# Altium footprint library PcbLib.PcbLib: 39 footprints (part 2 of 3)
Each footprint in its own frame and in the unit in brackets; x right, y up, seen from the top. Pads: shape width x height; smd on the part's side, far side on the other; paste and mask are expansions set on the pad; w line width, h text height; cw(c..) or ccw(c..) is an arc to the next point about the centre after c.
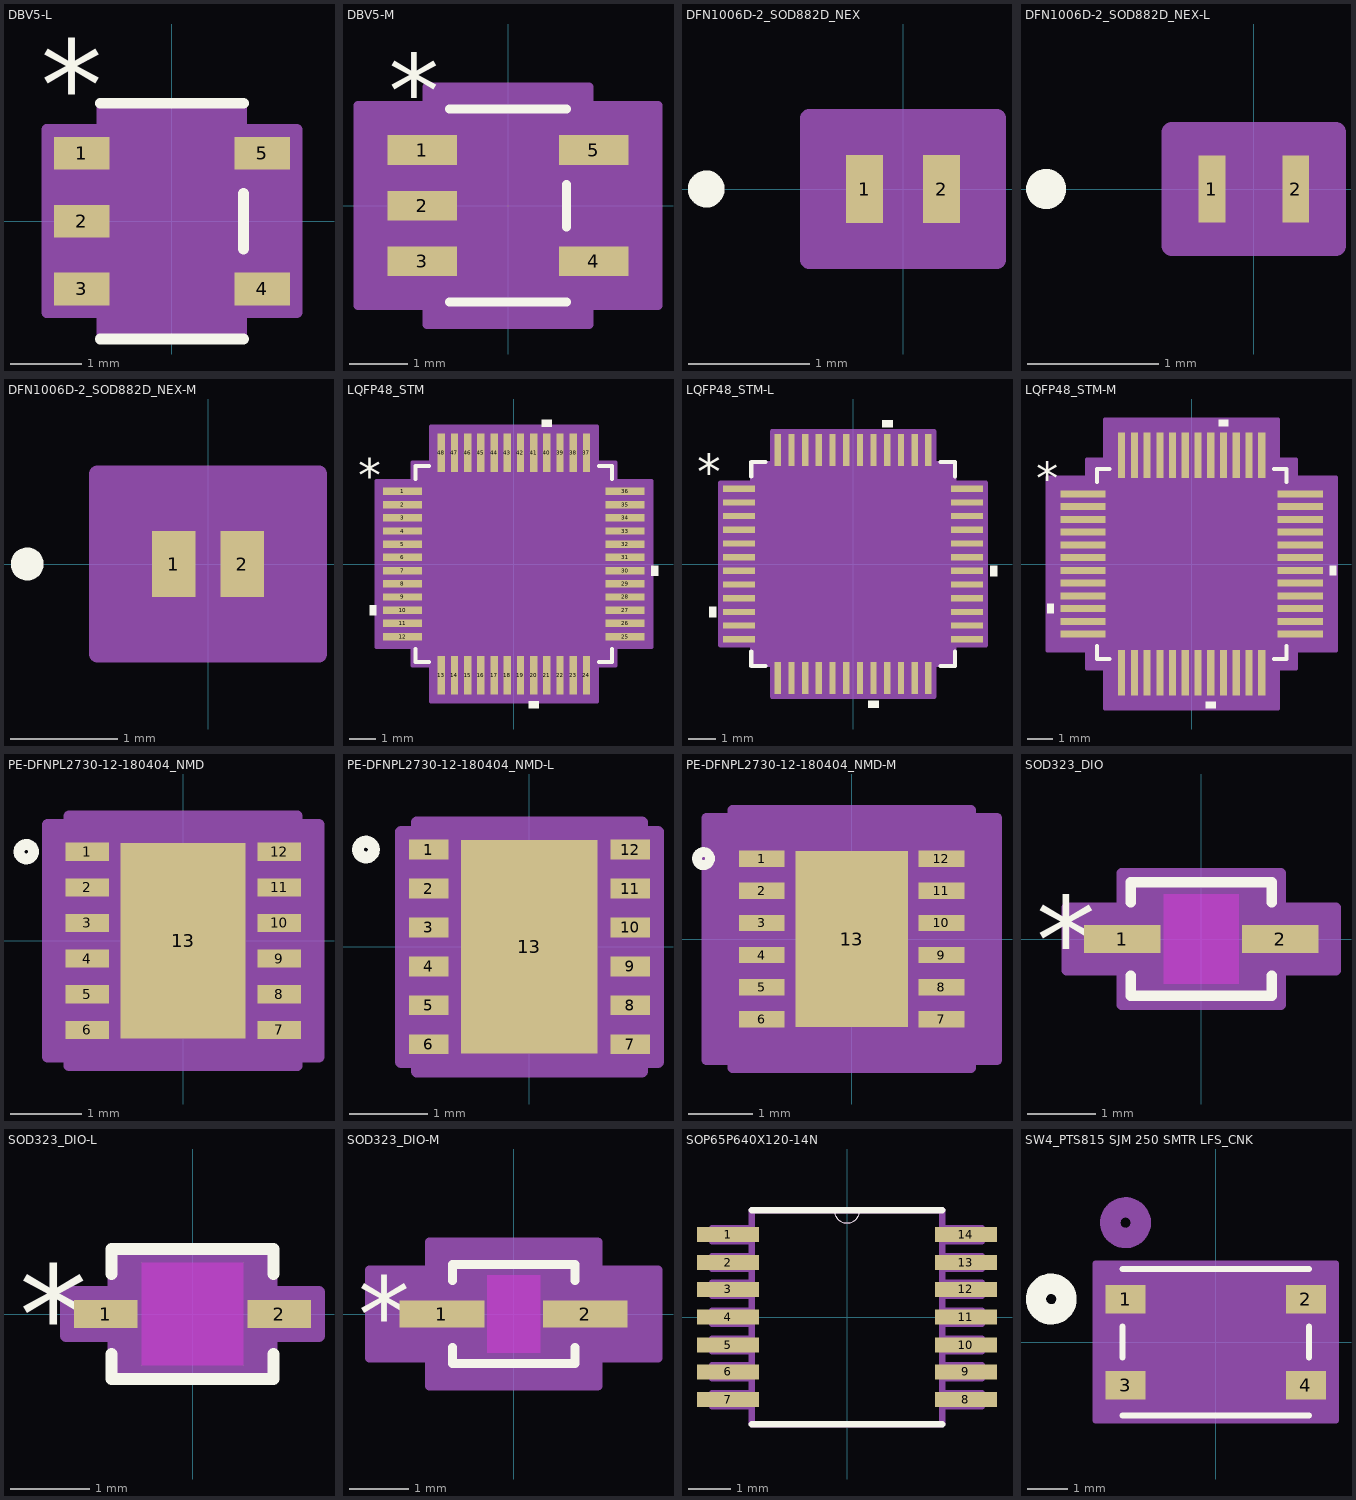
[diagram p1: the footprints below, top view; thin cyan lines are the x and y axes]

## DBV5-L [mil]
pads (5):
  rect 30.5x18 smd paste+0 mask+0: 1(-49.75,37.4) 2(-49.75,0) 3(-49.75,-37.4) 4(49.75,-37.4) 5(49.75,37.4)
Top Overlay:
  lines w6: -39.5,-65 39.5,-65 ; -39.5,65 39.5,65 ; 39.5,-15.3 39.5,15.3
  text "*" at -72.25,50.4 h50
Mechanical 13:
  lines w0: -12,60 ccw(c0,60) 12,60
  lines w1: -59,-47.4 -34.5,-47.4 -34.5,-27.4 -59,-27.4 -59,-47.4 ; -59,-10 -34.5,-10 -34.5,10 -59,10 -59,-10 ; -59,27.4 -34.5,27.4 -34.5,47.4 -59,47.4 -59,27.4 ; -34.5,-60 -34.5,60 34.5,60 34.5,-60 -34.5,-60 ; 34.5,-47.4 59,-47.4 59,-27.4 34.5,-27.4 34.5,-47.4 ; 34.5,27.4 59,27.4 59,47.4 34.5,47.4 34.5,27.4
  text "*" at -37,12.4 h50
Mechanical 15:
  region: 38.5,-64 -38.5,-64 -38.5,-50.4 -69,-50.4 -69,50.4 -38.5,50.4 -38.5,64 38.5,64 38.5,50.4 69,50.4 69,-50.4 38.5,-50.4
  lines w6: -69,-50.4 -69,50.4 -38.5,50.4 -38.5,64 38.5,64 38.5,50.4 69,50.4 69,-50.4 38.5,-50.4 38.5,-64 -38.5,-64 -38.5,-50.4 -69,-50.4
3D body "DBV5.step": height 57.09, standoff 0, extent -59.02,-60 59.02,60

## DBV5-M [mil]
pads (5):
  rect 46.5x20 smd paste+0 mask+0: 1(-57.75,37.4) 2(-57.75,0) 3(-57.75,-37.4) 4(57.75,-37.4) 5(57.75,37.4)
Top Overlay:
  lines w6: -39.5,-65 39.5,-65 ; -39.5,65 39.5,65 ; 39.5,-14.3 39.5,14.3
  text "*" at -80.25,52.4 h50
Mechanical 13:
  lines w0: -12,60 ccw(c0,60) 12,60
  lines w1: -59,-47.4 -34.5,-47.4 -34.5,-27.4 -59,-27.4 -59,-47.4 ; -59,-10 -34.5,-10 -34.5,10 -59,10 -59,-10 ; -59,27.4 -34.5,27.4 -34.5,47.4 -59,47.4 -59,27.4 ; -34.5,-60 -34.5,60 34.5,60 34.5,-60 -34.5,-60 ; 34.5,-47.4 59,-47.4 59,-27.4 34.5,-27.4 34.5,-47.4 ; 34.5,27.4 59,27.4 59,47.4 34.5,47.4 34.5,27.4
  text "*" at -37,14.4 h50
Mechanical 15:
  region: 54.5,-80 -54.5,-80 -54.5,-67.4 -101,-67.4 -101,67.4 -54.5,67.4 -54.5,80 54.5,80 54.5,67.4 101,67.4 101,-67.4 54.5,-67.4
  lines w6: -101,-67.4 -101,67.4 -54.5,67.4 -54.5,80 54.5,80 54.5,67.4 101,67.4 101,-67.4 54.5,-67.4 54.5,-80 -54.5,-80 -54.5,-67.4 -101,-67.4
3D body "DBV5.step": height 57.09, standoff 0, extent -59.02,-60 59.02,60

## DFN1006D-2_SOD882D_NEX [mil]
pads (2):
  rect 12x22 smd paste+0 mask-1: 1(-12.5,0) 2(12.5,0)
Top Overlay:
  circle w6: c-64,0 r3
Mechanical 13:
  circle w0: c0,0 r3
  lines w1: -20.5,-13 -20.5,13 20.5,13 20.5,-13 -20.5,-13
Mechanical 15:
  region: -30.5,-21 -30.5,21 -30.5,23 30.5,23 30.5,21 30.5,-21 30.5,-23 -30.5,-23
  lines w6: -30.5,-23 30.5,-23 30.5,-21 30.5,21 30.5,23 -30.5,23 -30.5,21 -30.5,-21 -30.5,-23
3D body "DFN1006D-2_SOD882D_NEX.step": height 16.1, standoff 0, extent -20.51,-12.99 20.51,12.99

## DFN1006D-2_SOD882D_NEX-L [mil]
pads (2):
  rect 8x20 smd paste+0 mask+0: 1(-12.5,0) 2(12.5,0)
Top Overlay:
  circle w6: c-62,0 r3
Mechanical 13:
  circle w0: c0,0 r3
  lines w1: -20.5,-13 -20.5,13 20.5,13 20.5,-13 -20.5,-13
Mechanical 15:
  region: -24.5,-14 -24.5,14 -24.5,17 24.5,17 24.5,14 24.5,-14 24.5,-17 -24.5,-17
  lines w6: -24.5,-17 24.5,-17 24.5,-14 24.5,14 24.5,17 -24.5,17 -24.5,14 -24.5,-14 -24.5,-17
3D body "DFN1006D-2_SOD882D_NEX.step": height 16.1, standoff 0, extent -20.51,-12.99 20.51,12.99

## DFN1006D-2_SOD882D_NEX-M [mil]
pads (2):
  rect 16x24 smd paste+0 mask+0: 1(-12.5,0) 2(12.5,0)
Top Overlay:
  circle w6: c-66,0 r3
Mechanical 13:
  circle w0: c0,0 r3
  lines w1: -20.5,-13 -20.5,13 20.5,13 20.5,-13 -20.5,-13
Mechanical 15:
  region: -40.5,-32 -40.5,32 -40.5,33 40.5,33 40.5,32 40.5,-32 40.5,-33 -40.5,-33
  lines w6: -40.5,-33 40.5,-33 40.5,-32 40.5,32 40.5,33 -40.5,33 -40.5,32 -40.5,-32 -40.5,-33
3D body "DFN1006D-2_SOD882D_NEX.step": height 16.1, standoff 0, extent -20.51,-12.99 20.51,12.99

## LQFP48_STM [mil]
pads (48):
  rect 58x11 smd paste+0 mask+0: 1(-166,108.27) 2(-166,88.58) 3(-166,68.9) 4(-166,49.21) 5(-166,29.53) 6(-166,9.84) 7(-166,-9.84) 8(-166,-29.53) 9(-166,-49.21) 10(-166,-68.9) 11(-166,-88.58) 12(-166,-108.27) 25(166,-108.27) 26(166,-88.58) 27(166,-68.9) 28(166,-49.21) 29(166,-29.53) 30(166,-9.84) 31(166,9.84) 32(166,29.53) 33(166,49.21) 34(166,68.9) 35(166,88.58) 36(166,108.27)
  rect 11x58 smd paste+0 mask+0: 13(-108.27,-166) 14(-88.58,-166) 15(-68.9,-166) 16(-49.21,-166) 17(-29.53,-166) 18(-9.84,-166) 19(9.84,-166) 20(29.53,-166) 21(49.21,-166) 22(68.9,-166) 23(88.58,-166) 24(108.27,-166) 37(108.27,166) 38(88.58,166) 39(68.9,166) 40(49.21,166) 41(29.53,166) 42(9.84,166) 43(-9.84,166) 44(-29.53,166) 45(-49.21,166) 46(-68.9,166) 47(-88.58,166) 48(-108.27,166)
Top Overlay:
  region: -205,-61.4 -215,-61.4 -215,-76.4 -205,-76.4
  region: 37.03,-205 22.03,-205 22.03,-215 37.03,-215
  region: 205,-2.34 215,-2.34 215,-17.34 205,-17.34
  region: 56.71,205 41.71,205 41.71,215 56.71,215
  lines w6: -146.5,-126.87 -146.5,-146.5 -126.87,-146.5 ; -146.5,126.87 -146.5,146.5 -126.87,146.5 ; 126.87,-146.5 146.5,-146.5 146.5,-126.87 ; 126.87,146.5 146.5,146.5 146.5,126.87
  text "*" at -232.5,108.11 h50
Mechanical 13:
  drawing of 197 lines, arcs and shapes, not listed
  text "*" at -139,93.11 h50
Mechanical 15:
  region: -123.77,-151.5 -151.5,-151.5 -151.5,-123.77 -205,-123.77 -205,123.77 -151.5,123.77 -151.5,151.5 -123.77,151.5 -123.77,205 123.77,205 123.77,151.5 151.5,151.5 151.5,123.77 205,123.77 205,-123.77 151.5,-123.77 151.5,-151.5 123.77,-151.5 123.77,-205 -123.77,-205
  lines w6: -205,-123.77 -151.5,-123.77 -151.5,-151.5 -123.77,-151.5 -123.77,-205 123.77,-205 123.77,-151.5 151.5,-151.5 151.5,-123.77 205,-123.77 205,123.77 151.5,123.77 151.5,151.5 123.77,151.5 123.77,205 -123.77,205 -123.77,151.5 -151.5,151.5 -151.5,123.77 -205,123.77 -205,-123.77
3D body "LQFP48_STM.step": height 63.11, standoff 0, extent -180.98,-180.98 180.98,180.98

## LQFP48_STM-L [mil]
pads (48):
  rect 46x9 smd paste+0 mask+0: 1(-164,108.27) 2(-164,88.58) 3(-164,68.9) 4(-164,49.21) 5(-164,29.53) 6(-164,9.84) 7(-164,-9.84) 8(-164,-29.53) 9(-164,-49.21) 10(-164,-68.9) 11(-164,-88.58) 12(-164,-108.27) 25(164,-108.27) 26(164,-88.58) 27(164,-68.9) 28(164,-49.21) 29(164,-29.53) 30(164,-9.84) 31(164,9.84) 32(164,29.53) 33(164,49.21) 34(164,68.9) 35(164,88.58) 36(164,108.27)
  rect 9x46 smd paste+0 mask+0: 13(-108.27,-164) 14(-88.58,-164) 15(-68.9,-164) 16(-49.21,-164) 17(-29.53,-164) 18(-9.84,-164) 19(9.84,-164) 20(29.53,-164) 21(49.21,-164) 22(68.9,-164) 23(88.58,-164) 24(108.27,-164) 37(108.27,164) 38(88.58,164) 39(68.9,164) 40(49.21,164) 41(29.53,164) 42(9.84,164) 43(-9.84,164) 44(-29.53,164) 45(-49.21,164) 46(-68.9,164) 47(-88.58,164) 48(-108.27,164)
Top Overlay:
  region: 56.71,197 41.71,197 41.71,207 56.71,207
  region: 197,-2.34 207,-2.34 207,-17.34 197,-17.34
  region: 37.03,-197 22.03,-197 22.03,-207 37.03,-207
  region: -197,-61.4 -207,-61.4 -207,-76.4 -197,-76.4
  lines w6: -146.5,-125.87 -146.5,-146.5 -125.87,-146.5 ; -146.5,125.87 -146.5,146.5 -125.87,146.5 ; 125.87,-146.5 146.5,-146.5 146.5,-125.87 ; 125.87,146.5 146.5,146.5 146.5,125.87
  text "*" at -224.5,108.11 h50
Mechanical 13:
  drawing of 197 lines, arcs and shapes, not listed
  text "*" at -139,93.11 h50
Mechanical 15:
  region: -116.77,-145.5 -145.5,-145.5 -145.5,-116.77 -191,-116.77 -191,116.77 -145.5,116.77 -145.5,145.5 -116.77,145.5 -116.77,191 116.77,191 116.77,145.5 145.5,145.5 145.5,116.77 191,116.77 191,-116.77 145.5,-116.77 145.5,-145.5 116.77,-145.5 116.77,-191 -116.77,-191
  lines w6: -191,-116.77 -191,116.77 -145.5,116.77 -145.5,145.5 -116.77,145.5 -116.77,191 116.77,191 116.77,145.5 145.5,145.5 145.5,116.77 191,116.77 191,-116.77 145.5,-116.77 145.5,-145.5 116.77,-145.5 116.77,-191 -116.77,-191 -116.77,-145.5 -145.5,-145.5 -145.5,-116.77 -191,-116.77
3D body "LQFP48_STM.step": height 63.11, standoff 0, extent -180.98,-180.98 180.98,180.98

## LQFP48_STM-M [mil]
pads (48):
  rect 70x11 smd paste+0 mask+0: 1(-168,108.27) 2(-168,88.58) 3(-168,68.9) 4(-168,49.21) 5(-168,29.53) 6(-168,9.84) 7(-168,-9.84) 8(-168,-29.53) 9(-168,-49.21) 10(-168,-68.9) 11(-168,-88.58) 12(-168,-108.27) 25(168,-108.27) 26(168,-88.58) 27(168,-68.9) 28(168,-49.21) 29(168,-29.53) 30(168,-9.84) 31(168,9.84) 32(168,29.53) 33(168,49.21) 34(168,68.9) 35(168,88.58) 36(168,108.27)
  rect 11x70 smd paste+0 mask+0: 13(-108.27,-168) 14(-88.58,-168) 15(-68.9,-168) 16(-49.21,-168) 17(-29.53,-168) 18(-9.84,-168) 19(9.84,-168) 20(29.53,-168) 21(49.21,-168) 22(68.9,-168) 23(88.58,-168) 24(108.27,-168) 37(108.27,168) 38(88.58,168) 39(68.9,168) 40(49.21,168) 41(29.53,168) 42(9.84,168) 43(-9.84,168) 44(-29.53,168) 45(-49.21,168) 46(-68.9,168) 47(-88.58,168) 48(-108.27,168)
Top Overlay:
  region: -213,-61.4 -223,-61.4 -223,-76.4 -213,-76.4
  region: 37.03,-213 22.03,-213 22.03,-223 37.03,-223
  region: 213,-2.34 223,-2.34 223,-17.34 213,-17.34
  region: 56.71,213 41.71,213 41.71,223 56.71,223
  lines w6: -146.5,-126.87 -146.5,-146.5 -126.87,-146.5 ; -146.5,126.87 -146.5,146.5 -126.87,146.5 ; 126.87,-146.5 146.5,-146.5 146.5,-126.87 ; 126.87,146.5 146.5,146.5 146.5,126.87
  text "*" at -240.5,108.11 h50
Mechanical 13:
  drawing of 197 lines, arcs and shapes, not listed
  text "*" at -139,93.11 h50
Mechanical 15:
  region: -133.77,-161.5 -161.5,-161.5 -161.5,-133.77 -223,-133.77 -223,133.77 -161.5,133.77 -161.5,161.5 -133.77,161.5 -133.77,223 133.77,223 133.77,161.5 161.5,161.5 161.5,133.77 223,133.77 223,-133.77 161.5,-133.77 161.5,-161.5 133.77,-161.5 133.77,-223 -133.77,-223
  lines w6: -223,-133.77 -161.5,-133.77 -161.5,-161.5 -133.77,-161.5 -133.77,-223 133.77,-223 133.77,-161.5 161.5,-161.5 161.5,-133.77 223,-133.77 223,133.77 161.5,133.77 161.5,161.5 133.77,161.5 133.77,223 -133.77,223 -133.77,161.5 -161.5,161.5 -161.5,133.77 -223,133.77 -223,-133.77
3D body "LQFP48_STM.step": height 63.11, standoff 0, extent -180.98,-180.98 180.98,180.98

## PE-DFNPL2730-12-180404_NMD [mil]
pads (13):
  rect 24x10 smd paste+0 mask+0: 1(-53,49.21) 2(-53,29.53) 3(-53,9.84) 4(-53,-9.84) 5(-53,-29.53) 6(-53,-49.21) 7(53,-49.21) 8(53,-29.53) 9(53,-9.84) 10(53,9.84) 11(53,29.53) 12(53,49.21)
  rect 69x108 smd paste+0 mask+0: 13(0,0)
Top Overlay:
  circle w6: c-86.69,49.21 r4
Top Paste:
  region: 30.56,-3.94 -30.56,-3.94 -30.56,-50.06 30.56,-50.06
  region: 30.56,50.06 -30.56,50.06 -30.56,3.94 30.56,3.94
Mechanical 13:
  circle w0: c-41,49.21 r3
  lines w0: -12,59 ccw(c0,59) 12,59
  lines w1: -53,-59 -53,59 53,59 53,-59 -53,-59
Mechanical 15:
  region: -63,-64.21 -75,-64.21 -75,64.21 -63,64.21 -63,69 63,69 63,64.21 75,64.21 75,-64.21 63,-64.21 63,-69 -63,-69
  lines w6: -75,-64.21 -63,-64.21 -63,-69 63,-69 63,-64.21 75,-64.21 75,64.21 63,64.21 63,69 -63,69 -63,64.21 -75,64.21 -75,-64.21
3D body "PE-DFNPL2730-12-180404_NMD.step": height 24.09, standoff 0, extent -52.99,-59.02 52.99,59.02

## PE-DFNPL2730-12-180404_NMD-L [mil]
pads (13):
  rect 20x10 smd paste+0 mask+0: 1(-51,49.21) 2(-51,29.53) 3(-51,9.84) 4(-51,-9.84) 5(-51,-29.53) 6(-51,-49.21) 7(51,-49.21) 8(51,-29.53) 9(51,-9.84) 10(51,9.84) 11(51,29.53) 12(51,49.21)
  rect 69x108 smd paste+0 mask+0: 13(0,0)
Top Overlay:
  circle w6: c-82.69,49.21 r4
Top Paste:
  region: 30.56,50.06 -30.56,50.06 -30.56,3.94 30.56,3.94
  region: 30.56,-3.94 -30.56,-3.94 -30.56,-50.06 30.56,-50.06
Mechanical 13:
  circle w0: c-41,49.21 r3
  lines w0: -12,59 ccw(c0,59) 12,59
  lines w1: -53,-59 53,-59 53,59 -53,59 -53,-59
Mechanical 15:
  region: -57,-58.21 -65,-58.21 -65,58.21 -57,58.21 -57,63 57,63 57,58.21 65,58.21 65,-58.21 57,-58.21 57,-63 -57,-63
  lines w6: -65,-58.21 -65,58.21 -57,58.21 -57,63 57,63 57,58.21 65,58.21 65,-58.21 57,-58.21 57,-63 -57,-63 -57,-58.21 -65,-58.21
3D body "PE-DFNPL2730-12-180404_NMD.step": height 24.09, standoff 0, extent -52.99,-59.02 52.99,59.02

## PE-DFNPL2730-12-180404_NMD-M [mil]
pads (13):
  rect 28x10 smd paste+0 mask+0: 1(-55,49.21) 2(-55,29.53) 3(-55,9.84) 4(-55,-9.84) 5(-55,-29.53) 6(-55,-49.21) 7(55,-49.21) 8(55,-29.53) 9(55,-9.84) 10(55,9.84) 11(55,29.53) 12(55,49.21)
  rect 69x108 smd paste+0 mask+0: 13(0,0)
Top Overlay:
  circle w6: c-90.69,49.21 r4
Top Paste:
  region: 30.56,50.06 -30.56,50.06 -30.56,3.94 30.56,3.94
  region: 30.56,-3.94 -30.56,-3.94 -30.56,-50.06 30.56,-50.06
Mechanical 13:
  circle w0: c-41,49.21 r3
  lines w0: -12,59 ccw(c0,59) 12,59
  lines w1: -53,-59 53,-59 53,59 -53,59 -53,-59
Mechanical 15:
  region: -73,-74.21 -89,-74.21 -89,74.21 -73,74.21 -73,79 73,79 73,74.21 89,74.21 89,-74.21 73,-74.21 73,-79 -73,-79
  lines w6: -89,-74.21 -89,74.21 -73,74.21 -73,79 73,79 73,74.21 89,74.21 89,-74.21 73,-74.21 73,-79 -73,-79 -73,-74.21 -89,-74.21
3D body "PE-DFNPL2730-12-180404_NMD.step": height 24.09, standoff 0, extent -52.99,-59.02 52.99,59.02

## SOD323_DIO [mm]
pads (2):
  rect 1.111x0.401 smd paste+0 mask+0: 1(-1.15,0) 2(1.15,0)
Top Overlay:
  lines w0.152: -1.027,-0.533 -1.027,-0.827 1.027,-0.827 1.027,-0.533 ; -1.027,0.533 -1.027,0.827 1.027,0.827 1.027,0.533
  text "*" at -2.404,-0.635 h1.27
Keep-Out Layer:
  region: -0.544,-0.649 -0.544,0.649 0.544,0.649 0.544,-0.649
Mechanical 13:
  lines w0.025: -0.9,-0.35 -0.55,-0.7 ; -0.9,0.35 -0.55,0.7 ; -1.35,-0.175 -0.9,-0.175 -0.9,0.175 -1.35,0.175 -1.35,-0.175 ; -0.9,-0.7 -0.9,0.7 0.9,0.7 0.9,-0.7 -0.9,-0.7 ; 0.9,-0.175 1.35,-0.175 1.35,0.175 0.9,0.175 0.9,-0.175
  text "*" at -0.964,-0.635 h1.27
Mechanical 15:
  region: -1.154,-0.454 -1.96,-0.454 -1.96,0.454 -1.154,0.454 -1.154,0.954 1.154,0.954 1.154,0.454 1.96,0.454 1.96,-0.454 1.154,-0.454 1.154,-0.954 -1.154,-0.954
  lines w0.152: -1.96,-0.454 -1.154,-0.454 -1.154,-0.954 1.154,-0.954 1.154,-0.454 1.96,-0.454 1.96,0.454 1.154,0.454 1.154,0.954 -1.154,0.954 -1.154,0.454 -1.96,0.454 -1.96,-0.454
3D body "SOD323_DIO.step": height 0.81, standoff 0, extent -1.35,-0.7 1.35,0.7

## SOD323_DIO-L [mm]
pads (2):
  rect 0.806x0.35 smd paste+0 mask+0: 1(-1.099,0) 2(1.099,0)
Top Overlay:
  lines w0.152: -1.027,-0.508 -1.027,-0.827 1.027,-0.827 1.027,-0.508 ; -1.027,0.508 -1.027,0.827 1.027,0.827 1.027,0.508
  text "*" at -2.201,-0.635 h1.27
Keep-Out Layer:
  region: -0.645,-0.649 -0.645,0.649 0.645,0.649 0.645,-0.649
Mechanical 13:
  lines w0.025: -0.9,-0.35 -0.55,-0.7 ; -0.9,0.35 -0.55,0.7 ; -1.35,-0.175 -1.35,0.175 -0.9,0.175 -0.9,-0.175 -1.35,-0.175 ; -0.9,-0.7 0.9,-0.7 0.9,0.7 -0.9,0.7 -0.9,-0.7 ; 0.9,-0.175 0.9,0.175 1.35,0.175 1.35,-0.175 0.9,-0.175
  text "*" at -0.964,-0.635 h1.27
Mechanical 15:
  region: -1.002,-0.277 -1.604,-0.277 -1.604,0.277 -1.002,0.277 -1.002,0.802 1.002,0.802 1.002,0.277 1.604,0.277 1.604,-0.277 1.002,-0.277 1.002,-0.802 -1.002,-0.802
  lines w0.152: -1.604,-0.277 -1.604,0.277 -1.002,0.277 -1.002,0.802 1.002,0.802 1.002,0.277 1.604,0.277 1.604,-0.277 1.002,-0.277 1.002,-0.802 -1.002,-0.802 -1.002,-0.277 -1.604,-0.277
3D body "SOD323_DIO.step": height 0.81, standoff 0, extent -1.35,-0.7 1.35,0.7

## SOD323_DIO-M [mil]
pads (2):
  rect 55.75x17.78 smd paste+0 mask+0: 1(-47.28,0) 2(47.28,0)
Top Overlay:
  lines w6: -40.43,-21.99 -40.43,-32.56 40.43,-32.56 40.43,-21.99 ; -40.43,21.99 -40.43,32.56 40.43,32.56 40.43,21.99
  text "*" at -102.65,-25 h50
Keep-Out Layer:
  region: -17.4,-25.56 -17.4,25.56 17.4,25.56 17.4,-25.56
Mechanical 13:
  lines w1: -35.43,-13.78 -21.65,-27.56 ; -35.43,13.78 -21.65,27.56 ; -53.15,-6.89 -35.43,-6.89 -35.43,6.89 -53.15,6.89 -53.15,-6.89 ; -35.43,-27.56 -35.43,27.56 35.43,27.56 35.43,-27.56 -35.43,-27.56 ; 35.43,-6.89 53.15,-6.89 53.15,6.89 35.43,6.89 35.43,-6.89
  text "*" at -37.93,-25 h50
Mechanical 15:
  region: -55.43,-28.89 -95.15,-28.89 -95.15,28.89 -55.43,28.89 -55.43,47.56 55.43,47.56 55.43,28.89 95.15,28.89 95.15,-28.89 55.43,-28.89 55.43,-47.56 -55.43,-47.56
  lines w6: -95.15,-28.89 -55.43,-28.89 -55.43,-47.56 55.43,-47.56 55.43,-28.89 95.15,-28.89 95.15,28.89 55.43,28.89 55.43,47.56 -55.43,47.56 -55.43,28.89 -95.15,28.89 -95.15,-28.89
3D body "SOD323_DIO.step": height 32.09, standoff 0, extent -53.15,-27.56 53.15,27.56

## SOP65P640X120-14N [mil]
pads (14):
  rect 58x14 smd: 1(-111,77) 2(-111,51) 3(-111,26) 4(-111,0) 5(-111,-26) 6(-111,-51) 7(-111,-77) 8(111,-77) 9(111,-51) 10(111,-26) 11(111,0) 12(111,26) 13(111,51) 14(111,77)
Top Overlay:
  lines w0: -12,100 ccw(c0,100) 12,100
  lines w6: -89,-100 89,-100 ; -89,100 -12,100 12,100 89,100
Mechanical 13:
  lines w0: -12,100 ccw(c0,100) 12,100
  lines w6: -126,-83 -89,-83 -89,-71 -126,-71 -126,-83 ; -126,-57 -89,-57 -89,-45 -126,-45 -126,-57 ; -126,-32 -89,-32 -89,-20 -126,-20 -126,-32 ; -126,-6 -89,-6 -89,6 -126,6 -126,-6 ; -126,20 -89,20 -89,32 -126,32 -126,20 ; -126,45 -89,45 -89,57 -126,57 -126,45 ; -126,71 -89,71 -89,83 -126,83 -126,71 ; -89,-100 -89,100 -12,100 12,100 89,100 89,-100 -89,-100 ; 89,-83 126,-83 126,-71 89,-71 89,-83 ; 89,-57 126,-57 126,-45 89,-45 89,-57 ; 89,-32 126,-32 126,-20 89,-20 89,-32 ; 89,-6 126,-6 126,6 89,6 89,-6 ; 89,20 126,20 126,32 89,32 89,20 ; 89,45 126,45 126,57 89,57 89,45 ; 89,71 126,71 126,83 89,83 89,71
3D body "TSSOP14_MC_MCH.step": height 47.36, standoff 0, extent -125.98,-100.39 125.98,100.39

## SW4_PTS815 SJM 250 SMTR LFS_CNK [mil]
pads (4):
  rect 39x28 smd paste+0 mask+0: 1(-88.58,42.32) 2(88.58,42.32) 3(-88.58,-42.32) 4(88.58,-42.32)
Top Overlay:
  circle w20: c-161.5,42.32 r15
  lines w6: -91.5,-72 91.5,-72 ; -91.5,-15.22 -91.5,15.22 ; -91.5,72 91.5,72 ; 91.5,-15.22 91.5,15.22
Bottom Overlay:
  circle w20: c-161.5,42.32 r15
Mechanical 13:
  circle w20: c-88.58,117.32 r15
  lines w1: -86.5,-67 -86.5,67 86.5,67 86.5,-67 -86.5,-67
Mechanical 15:
  region: 118.08,77 -118.08,77 -118.08,-77 118.08,-77
  lines w6: -118.08,-77 118.08,-77 118.08,77 -118.08,77 -118.08,-77